# EAGLE library part NRJ6HF (library con_neutrik_ag__Jack6,35)
1/4" stereo jack, switched, fully threaded nose Horizontal PCB panel mount jack featuring high board packing density by mounting on 15.88 mm (0.625 inch) minimum centers in rows or arrays. Mounting hardware must be ordered separately.
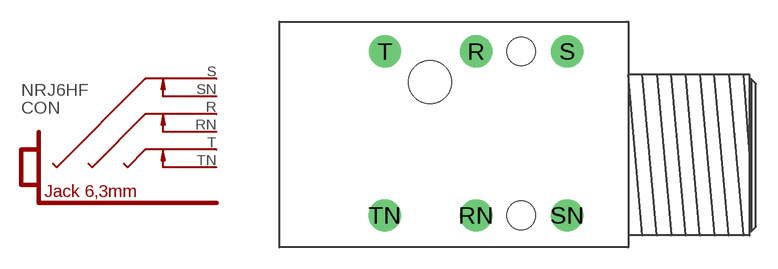
[diagram p3: symbol with the pads of NRJ6HF; footprint NRJ6HF]

Designator prefix CON

## NRJ6HF  [NRJ6HF]
R  R  pas
RN  RN  pas
S  S  pas
SN  SN  pas
T  T  pas
TN  TN  pas

## NRJ6HF-AU  [NRJ6HF]
Pads as for NRJ6HF

## Footprint NRJ6HF (pad centres in mm)
drill 1.5 round: R -10.6,7.23; RN -10.6,-4.2; S -4.25,7.23; SN -4.25,-4.2; T -16.94,7.23; TN -16.95,-4.2
hole 2 at -7.45,-4.2
hole 2 at -7.45,7.23
hole 3 at -13.8,5.1